# EAGLE library part MAX4906 (library maxim)
High-/Full-Speed USB 2.0 Switches Source: http://datasheets.maxim-ic.com/en/ds/MAX4906-MAX4907F.pdf
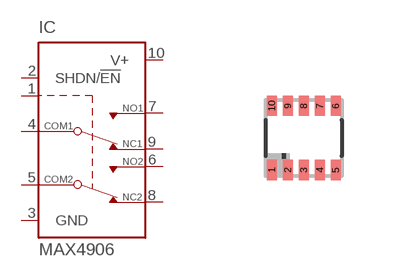
[diagram p219: symbol with the pads of UDFN10; footprint UDFN10]

Designator prefix IC

## MAX4906ELA (OC_FARNELL: unknown; OC_NEWARK: unknown), MAX4906FELA (OC_FARNELL: unknown; OC_NEWARK: unknown)  [UDFN10]
1  IN  in
2  SHDN/!EN  in
3  GND  pwr
4  COM1
5  COM2
6  NO2
7  NO1
8  NC2
9  NC1
10  V+  in

## Footprint UDFN10 (pad centres in mm)
10 uDFN Source: http://datasheets.maxim-ic.com/en/ds/MAX4906-MAX4907F.pdf
smd 0.25 x 0.5: 1 -0.8,-0.8; 2 -0.4,-0.8; 3 0,-0.8; 4 0.4,-0.8; 5 0.8,-0.8; 6 0.8,0.8; 7 0.4,0.8; 8 0,0.8; 9 -0.4,0.8; 10 -0.8,0.8